# Altium schematic symbol library SMT_TP-1MM.Schlib: 1 symbol
Pins are listed as number, name and electrical type; pins without a type are passive.

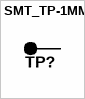
[diagram p0: symbol SMT_TP-1MM]

## SMT_TP-1MM
designator TP?, comment SMT Testpoint 1MM  (value not drawn)  (no BOM)
Manufacturer Part Number: SMT_TP-1MM; Manufacturer: Wavenumber; Flags: no-bom; Value: SMT Testpoint 1MM
footprint TP
pins: 1